# Altium schematic symbol library AAH_comm_lib.SchLib: 25 symbols
Pins are listed as number, name and electrical type; pins without a type are passive.

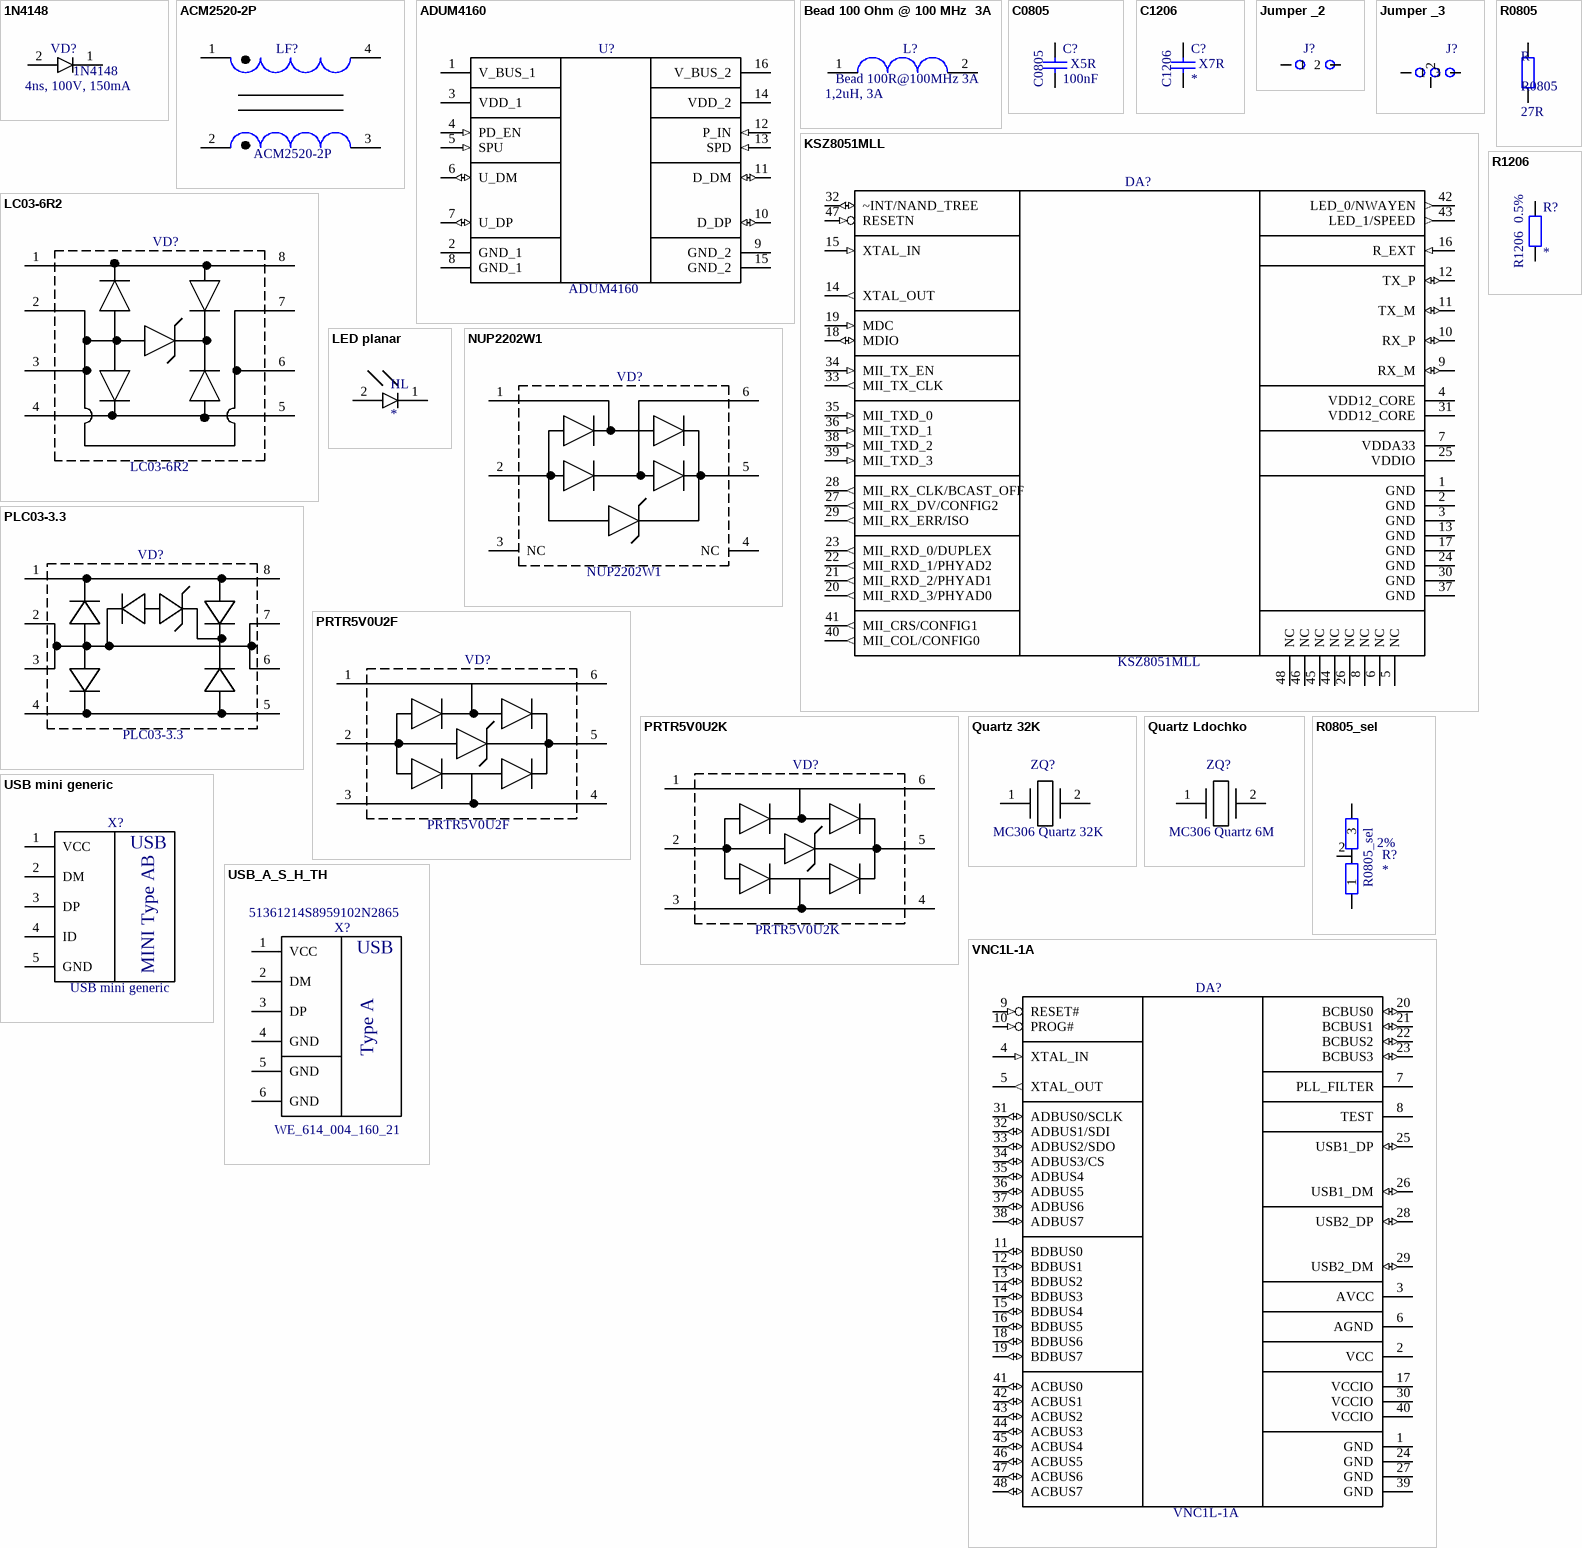
[diagram p0: symbols 1N4148 to VNC1L-1A]

## 1N4148
designator VD?  value 4ns, 100V, 150mA
Silicium diode 4ns switch 100V bv 200mA; Manufacture: Taiwan Semiconductor; Order code: 70-005-57; Type: 1N4148; Supplier: Elfa; Price: 0,06; Package: SOD-123
footprint SOD-123 (CASE425-04)
pins: 1 Anode, 2 Kathode

## ACM2520-2P
designator LF?
Differential pair filter; Manufacture: TDK; Order code: 1669307; Value: 1400R, 1.5A; Package: SMD RLC2520-2P; Price: 0,88; Supplier: Farnell; Type: ACM2520-2P
footprint RLC2520-2P (For SMD Inductros)
pins: 1, 2, 3, 4

## ADUM4160
designator U?
Full-Low Speed 5kV digital USB Isolator; Manufacture: Analog Devices; Order code: 10-298-36; Package: SOIC-16; Price: 11,2; Supplier: Elfa; Type: ADUM4160; Value: 5kV digital USB Isolator
footprint SOIC-16 Black
pins: 1 V_BUS_1 (power), 2 GND_1 (power), 3 VDD_1 (power), 4 PD_EN (in), 5 SPU (in), 6 U_DM (io), 7 U_DP (io), 8 GND_1 (power), 9 GND_2 (power), 10 D_DP (io), 11 D_DM (io), 12 P_IN (in), 13 SPD (in), 14 VDD_2 (power), 15 GND_2 (power), 16 V_BUS_2 (power)

## Bead 100 Ohm @ 100 MHz  3A
designator L?, comment Bead 100R@100MHz 3A  value 1,2uH, 3A
Inductor for power supply; Manufacture: Würth Elektronik; Order code: 58-664-10; Type: 7440520012; Package: smd 1206; Price: 1,49; Supplier: Elfa
footprint R1206 (Chip Resistor, 2-Leads, Body 3,2x1,6mm, IPC Medium Density)
pins: 1 B, 2 CB

## C0805
designator C?  value 100nF  Series: X5R
Manufacture: Kemet; Order code: 65-724-19; Type: C0805C104K5RAC; Package: smd 0805; Price: 0,06; Supplier: Elfa
footprint R0805 (Chip Resistor, 2-Leads, Body 2,0x1,2mm, IPC Medium Density)
pins: 1, 2

## C1206
designator C?  Series: X7R
Manufacture: *; Order code: *; Package: *; Price: *; Supplier: *; Type: *; Value: *
footprint R1206 (Chip Resistor, 2-Leads, Body 3,2x1,6mm, IPC Medium Density)
pins: 1, 2

## Jumper _2
designator J?, comment Jumper_2  (value not drawn)
2-wire jumper; Manufacture: *; Order code: *; Package: *; Price: *; Supplier: *; Type: *; Value: *
pins: 1, 2

## Jumper _3
designator J?  (value not drawn)
3-wire jumper with two possition of commutation; Manufacture: EAO; Order code: 35-365-47; Package: 3x2,54; Price: 1,59; Supplier: Elfa; Type: Jumper; Value: *
pins: 1, 2, 3

## KSZ8051MLL
designator DA?
Fast Ethernet PHY Micrel; Manufacture: MICREL SEMICONDUCTOR; Order code: 1961898; Package: TQFP-48; Price: 1,29; Supplier: Farnell; Type: KSZ8051MLL; Value: Fast Ethernet PHY
footprint TQFP-48 (TSQFP, 48-Leads, Body 9,2x9,2mm (max), Pitch 0,50mm, IPC Medium Density)
pins: 1 GND (power), 2 GND (power), 3 GND (power), 4 VDD12_CORE (power), 5 NC, 6 NC, 7 VDDA33 (power), 8 NC, 9 RX_M (io), 10 RX_P (io), 11 TX_M (io), 12 TX_P (io), 13 GND (power), 14 XTAL_OUT (out), 15 XTAL_IN (in), 16 R_EXT (in), 17 GND (power), 18 MDIO (io), 19 MDC (in), 20 MII_RXD_3/PHYAD0 (out), 21 MII_RXD_2/PHYAD1 (out), 22 MII_RXD_1/PHYAD2 (out), 23 MII_RXD_0/DUPLEX (out), 24 GND (power), 25 VDDIO (power), 26 NC, 27 MII_RX_DV/CONFIG2 (out), 28 MII_RX_CLK/BCAST_OFF (out), 29 MII_RX_ERR/ISO (out), 30 GND (power), 31 VDD12_CORE (power), 32 ~INT/NAND_TREE (io), 33 MII_TX_CLK (out), 34 MII_TX_EN (in), 35 MII_TXD_0 (in), 36 MII_TXD_1 (in), 37 GND (power), 38 MII_TXD_2 (in), 39 MII_TXD_3 (in), 40 MII_COL/CONFIG0 (out), 41 MII_CRS/CONFIG1 (out), 42 LED_0/NWAYEN (out), 43 LED_1/SPEED (out), 44 NC, 45 NC, 46 NC, 47 RESETN (in), 48 NC

## LC03-6R2
designator VD?
Standart capacitance TVS array 2000W 6V; Manufacture: ON SEMICONDUCTOR; Order code: 1703034RL; Package: SOIC-8; Price: 1,34; Supplier: Farnell; Type: LC03-6R2; Value: *
footprint SOIC-8 (SOIC, 8-Leads, Body 5,0x4,0mm (max), Pitch 1,27mm, IPC Medium Density)
pins: 1 (power), 2 GND (power), 3 GND (power), 4 (power), 5 (power), 6 GND (power), 7 GND (power), 8

## LED planar
designator HL
planar LED; Manufacture: *; Order code: *; Value: *; Type: *; Supplier: *; Package: smd 0805; Price: *
footprint R0805 (Chip Resistor, 2-Leads, Body 2,0x1,2mm, IPC Medium Density)
pins: 1 Anode, 2 Kathode

## NUP2202W1
designator VD?
Standart capacitance TVS array 500W 6V; Manufacture: ON SEMICONDUCTOR; Order code: 1900294; Type: NUP2201MR6T1G; Value: 5V, 500W; Package: SOT-363; Price: 0,91; Supplier: Farnell
footprint SOT-363 (For small TVS)
pins: 1 (power), 2 (power), 3 NC, 4 NC (power), 5 (power), 6

## PLC03-3.3
designator VD?
TVS array for Eth 100; Manufacture: BOURNS; Order code: 1899477; Value: 3V; Package: SOIV-8; Price: 2,46; Supplier: Farnel; Type: PLC03-3.3
footprint SOIC-8 (SOIC, 8-Leads, Body 5,0x4,0mm (max), Pitch 1,27mm, IPC Medium Density)
pins: 1 (power), 2 (power), 3 (power), 4 (power), 5 (power), 6 (power), 7 (power), 8 (power)

## PRTR5V0U2F
designator VD?
Standart capacitance TVS array; Manufacture: NXP; Order code: 2069377RL; Type: PRTR5V0U2D; Package: SOT-886; Price: 0,47; Supplier: Farnell; Value: *
footprint SOT-886 (LCC, 6-Pins, Body 1,0x1,5mm (max), Pitch 0,50mm, IPC Medium Density)
pins: 1 (power), 2 (power), 3, 4 (power), 5 (power), 6

## PRTR5V0U2K
designator VD?
Standart capacitance TVS array; Manufacture: *; Order code: *; Package: *; Price: *; Supplier: *; Type: PRTR5V0U2K; Value: *
footprint SOT-891
pins: 1 (power), 2 (power), 3, 4 (power), 5 (power), 6

## Quartz 32K
designator ZQ?, comment MC306 Quartz 32K
Manufacture: *; Order code: *; Package: *; Price: *; Supplier: *; Type: *; Value: *
pins: 1, 2

## Quartz Ldochko
designator ZQ?, comment MC306 Quartz 6M
Manufacture: *; Order code: *; Package: *; Price: *; Supplier: *; Type: *; Value: *
footprint Quartz LODOCHKO (Footprint not found)
pins: 1, 2

## R0805
designator R  value 27R
Type: *
pins: 1, 2

## R0805_sel
designator R?  Tolerance: 2%
Manufacture: *; Order code: *; Package: *; Price: *; Supplier: *; Type: *; Value: *
footprint R0805_3 (Chip Resistor, 3-Leads, Body 2,0x1,2mm, IPC Medium Density)
pins: 1, 2, 3

## R1206
designator R?  Tolerance: 0.5%
Manufacture: *; Order code: *; Package: *; Price: *; Supplier: *; Type: *; Value: *
footprint R1206 (Chip Resistor, 2-Leads, Body 3,2x1,6mm, IPC Medium Density)
pins: 1, 2

## USB mini generic
designator X?
USB mini AB surface horizontal connector; Manufacture: MULTICOMP; Order code: 2112368; Package: Mini USB; Price: 0,75; Supplier: Farnell; Type: MUSB-A-S-RA-TSMT; Value: *
footprint Mini USB uni (Surface maybe universal)
pins: 1 VCC, 2 DM, 3 DP, 4 ID, 5 GND
text: USB; MINI Type AB

## USB_A_S_H_TH
designator X?, comment WE_614_004_160_21  Supplier Part Number 1: 51361214S8959102N2865
USB type A single horizontal conector; Supplier 1: Arrow; Manufacture: *; Order code: *; Package: *; Price: *; Supplier: *; Type: *; Value: *
footprint USB_A_S_H_TH (USB Type A single horizontal board connector)
pins: 1 VCC, 2 DM, 3 DP, 4 GND, 5 GND, 6 GND
text: USB; Type A

## VNC1L-1A
designator DA?
Embedded USB Host Controller dual; Manufacture: FTDI; Order code: 73-206-63; Package: TQFP-48; Price: 12,4; Supplier: Elfa; Type: VNC1L-1A; Value: *
footprint TQFP-48 (TSQFP, 48-Leads, Body 9,2x9,2mm (max), Pitch 0,50mm, IPC Medium Density)
pins: 1 GND (power), 2 VCC (power) "For device core", 3 AVCC (power), 4 XTAL_IN (in), 5 XTAL_OUT (out), 6 AGND (power), 7 PLL_FILTER, 8 TEST, 9 RESET# (in), 10 PROG# (in), 11 BDBUS0 (io), 12 BDBUS1 (io), 13 BDBUS2 (io), 14 BDBUS3 (io), 15 BDBUS4 (io), 16 BDBUS5 (io), 17 VCCIO (power), 18 BDBUS6 (io), 19 BDBUS7 (io), 20 BCBUS0 (io), 21 BCBUS1 (io), 22 BCBUS2 (io), 23 BCBUS3 (io), 24 GND (power), 25 USB1_DP (io), 26 USB1_DM (io), 27 GND (power), 28 USB2_DP (io), 29 USB2_DM (io), 30 VCCIO (power), 31 ADBUS0/SCLK (io), 32 ADBUS1/SDI (io), 33 ADBUS2/SDO (io), 34 ADBUS3/CS (io), 35 ADBUS4 (io), 36 ADBUS5 (io), 37 ADBUS6 (io), 38 ADBUS7 (io), 39 GND (power), 40 VCCIO (power), 41 ACBUS0 (io), 42 ACBUS1 (io), 43 ACBUS2 (io), 44 ACBUS3 (io), 45 ACBUS4 (io), 46 ACBUS5 (io), 47 ACBUS6 (io), 48 ACBUS7 (io)

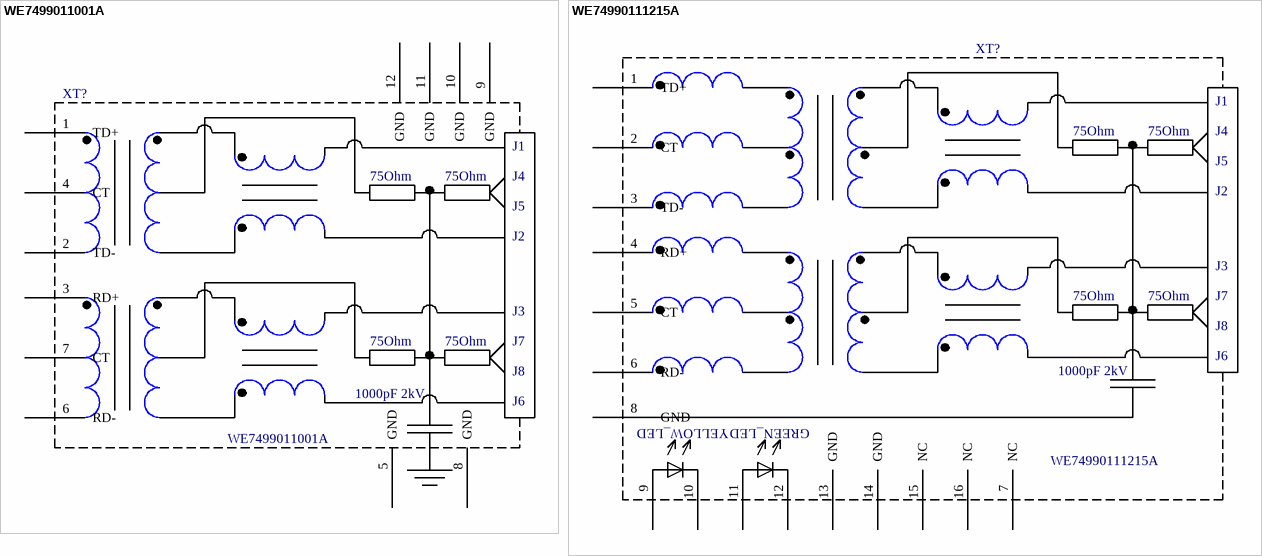
[diagram p1: symbols WE7499011001A to WE74990111215A]

## WE7499011001A
designator XT?
10/100 Base pulse connector without leds; Manufacture: *; Order code: *; Package: *; Price: *; Supplier: *; Type: *; Value: *
footprint WE_749_901_1001A_RJ45 (RJ-45 Connector without leds)
pins: 1 TD+, 2 TD-, 3 RD+, 4 CT, 5 GND, 6 RD-, 7 CT, 8 GND, 9 GND, 10 GND, 11 GND, 12 GND
text: J1; 75Ohm; J4; J5; J2; J3; J7; J8; 1000pF 2kV; J6

## WE74990111215A
designator XT?
10/100 Base pulse connector with leds; Manufacture: WURTH ELEKTRONIK; Order code: 1636377; Package: RJ-45; Price: 8,02; Supplier: Farnell; Type: WE74990111215A; Value: *
footprint WE_749_901_112151A_RJ45 (RJ-45 Connector with leds)
pins: 1 TD+, 2 CT, 3 TD-, 4 RD+, 5 CT, 6 RD-, 7 NC, 8 GND, 9 Yellow_Anode, 10 Yellow_Kathode, 11 Green_Anode, 12 Green_Kathode, 13 GND, 14 GND, 15 NC, 16 NC
text: J1; 75Ohm; J4; J5; J2; J3; J7; J8; J6; 1000pF 2kV; YELLOW_LED; GREEN_LED